# Altium schematic symbol library TRACTIAN-HW-Challenge.SCHLIB: 17 symbols
Pins are listed as number, name and electrical type; pins without a type are passive.

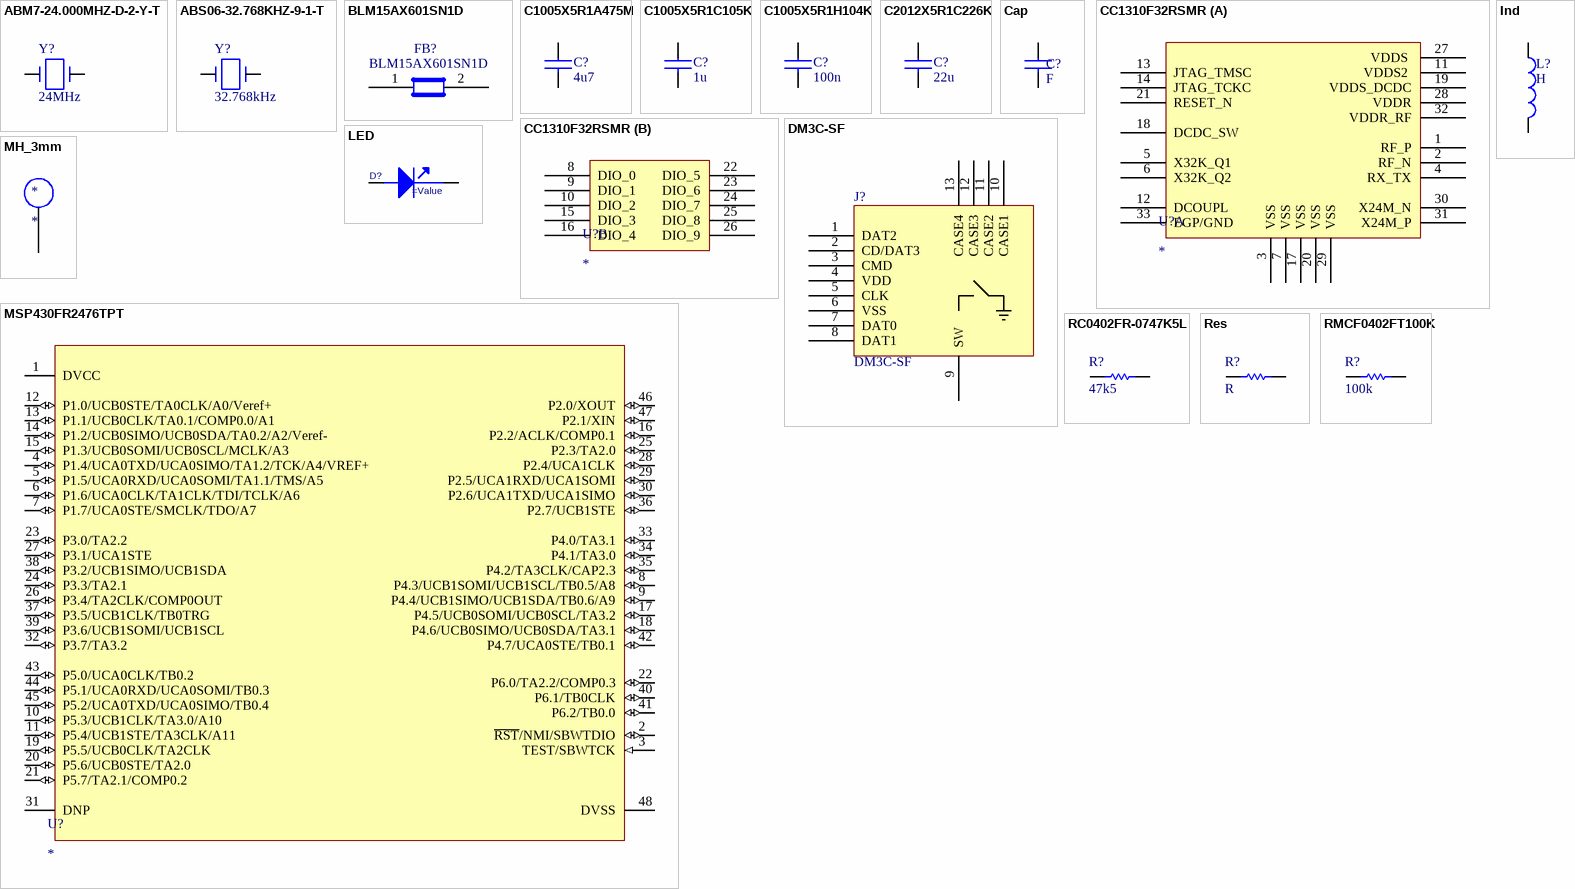
[diagram p0: symbols ABM7-24.000MHZ-D-2-Y-T to RMCF0402FT100K]

## ABM7-24.000MHZ-D-2-Y-T
designator Y?, comment 24MHz
CRYSTAL 24.0000MHZ 18PF SMD; Manufacturer: Abracon Corporation; Manufacturer Part Number: ABM7-24.000MHZ-D-2-Y-T; Frequency Stability: ±30ppm; Frequency Tolerance: ±20ppm; ESR (Equivalent Series Resistance): 50 Ohm; Operating Mode: Fundamental; .Creator: MM; .Checked PCB: RF, used by MM; .Checked SCH: MM, checked by RF; Supplier 1: Digi-Key; RoHS: RoHS Compliant; Category: Crystals and Oscillators; Stock 1: 53059; Pricing 1: 1=1.31, 10=1.138, 50=0.9976, 100=0.7875, 500=0.665 (USD); Type: MHz Crystal; Frequency: 24MHz; Load Capacitance: 18pF; Operating Temperature: -40°C ~ 85°C; Ratings: -; Mounting Type: Surface Mount; Package / Case: 2-SMD; Size / Dimension: 0.236" L x 0.138" W (6.00mm x 3.50mm); Height: 0.055" (1.40mm); Packaging: Cut Tape (CT); ComponentLink1URL: http://www.abracon.com/Resonators/abm7.pdf; ComponentLink1Description: http://www.abracon.com/Resonators/abm7.pdf; Supplier Part Number 1: 535-9845-1-ND
footprint ABM7_v1_1 (Corrected from 2.2 to 2.4 between pads)
pins: 1, 2

## ABS06-32.768KHZ-9-1-T
designator Y?, comment 32.768kHz
CRYSTAL 32.768 KHZ 9.0 PF SMD; Manufacturer: Abracon Corporation; Manufacturer Part Number: ABS06-32.768KHZ-9-1-T; .Checked PCB: used; Frequency Stability: ±10ppm; Load Capacitance: 9pF; Operating Mode: Fundamental; .Checked SCH: used; Category: Crystals and Oscillators; Supplier Part Number: 535-10247-1-ND; Operating Temperature: -40°C ~ 85°C; Package / Case: 2-SMD, No Lead (DFN, LCC); Price 1k [$]: 1.24500; Value: 32.768kHz; Frequency: 32.768kHz; Supplier: Digikey; Supplier 1: Digi-Key; Supplier Part Number 1: 535-10247-1-ND; RoHS: RoHS Compliant; Stock 1: 5693; Pricing 1: 1=2.81, 10=2.438, 50=2.1376, 100=1.6875, 500=1.425 (USD); Type: kHz Crystal (Tuning Fork); Frequency Tolerance: ±10ppm; Mounting Type: Surface Mount; Size / Dimension: 0.079" L x 0.047" W (2.00mm x 1.20mm); Height: 0.024" (0.60mm); Packaging: Cut Tape (CT); ComponentLink1URL: http://www.abracon.com/Resonators/ABS06.pdf; ComponentLink1Description: http://www.abracon.com/Resonators/ABS06.pdf
footprint ABS06
pins: 1, 2

## BLM15AX601SN1D
designator FB?
FERRITE CHIP 600 OHM 0402 420mA; Manufacturer: Murata Electronics North America; .Checked PCB: used; Impedance @ Frequency: 600 Ohm @ 100MHz; DC Resistance (DCR): 340 mOhm Max; Filter Type: Differential Mode - Single; Number of Lines: 1; .Checked SCH: used; Category: Filters; Supplier Part Number: 490-5441-1-ND; Manufacturer Part Number: BLM15AX601SN1D; Package / Case: 0402 (1005 Metric); Price 1k [$]: 0.03280; Value: BLM15AX601SN1D; Current Rating: 420mA; Supplier: Digikey; Supplier 1: Digi-Key; Supplier Part Number 1: 490-5441-1-ND; RoHS: RoHS Compliant; Stock 1: 34008; Pricing 1: 1=0.26, 10=0.197, 50=0.1148, 100=0.0918, 250=0.0656, 500=0.0446, 1000=0.03608, 5000=0.02821 (USD); Mounting Type: Surface Mount; Packaging: Cut Tape (CT); Height (Max): 0.022" (0.55mm); Size / Dimension: 0.039" L x 0.020" W (1.00mm x 0.50mm); ComponentLink1URL: http://search.murata.co.jp/Ceramy/image/img/PDF/ENG/L0110S0100BLM15AX_SN.pdf; ComponentLink1Description: http://search.murata.co.jp/Ceramy/image/img/PDF/ENG/L0110S0100BLM15AX_SN.pdf
footprint C0402
pins: 1, 2

## C1005X5R1A475M
designator C?, comment 4u7
CAP CER 4.7UF 10V 20% X5R 0402; Manufacturer: TDK Corporation; Manufacturer Part Number: C1005X5R1A475M; Capacitance: 4.7µF; .Checked PCB: RF; Supplier 1: Digi-Key; Supplier Part Number 1: 445-8023-1-ND; RoHS: RoHS Compliant; Category: Capacitors; Stock 1: 10140; Pricing 1: 1=0.53, 10=0.415, 100=0.25, 250=0.18752, 500=0.16, 1000=0.125, 5000=0.095 (USD); Voltage - Rated: 10V; Tolerance: ±20%; Temperature Coefficient: X5R; Mounting Type: Surface Mount, MLCC; Operating Temperature: -55°C ~ 85°C; Applications: General Purpose; Ratings: -; Package / Case: 0402 (1005 Metric); Size / Dimension: 0.039" L x 0.020" W (1.00mm x 0.50mm); Height - Seated (Max): -; Thickness (Max): -; Lead Spacing: -; Features: -; Packaging: Cut Tape (CT); Lead Style: -; ComponentLink1URL: http://www.tdk.com/pdf/general_B11.pdf; ComponentLink1Description: http://www.tdk.com/pdf/general_B11.pdf; .Checked SCH: RF
footprint C0402
pins: 1, 2

## C1005X5R1C105K
designator C?, comment 1u
CAP CER 1.0UF 16V X5R 0402; Manufacturer: TDK Corporation; Manufacturer Part Number: C1005X5R1C105K; Capacitance: 1.0µF; Value: 1uF; .Checked PCB: used; Tolerance: ±10%; Category: Capacitors; Operating Temperature: -55°C ~ 85°C; Package / Case: 0402 (1005 Metric); Price 1k [$]: 0.02080; .Checked SCH: used; Voltage - Rated: 16V; Supplier Part Number: 445-4978-1-ND; Supplier: Digikey; Supplier 1: Digi-Key; Supplier Part Number 1: 445-4978-1-ND; RoHS: RoHS Compliant; Stock 1: 341010; Pricing 1: 1=0.24, 10=0.16, 100=0.064, 250=0.046, 500=0.0328, 1000=0.024 (USD); Temperature Coefficient: X5R; Mounting Type: Surface Mount, MLCC; Applications: General Purpose; Ratings: -; Size / Dimension: 0.039" L x 0.020" W (1.00mm x 0.50mm); Height - Seated (Max): -; Thickness (Max): 0.022" (0.55mm); Lead Spacing: -; Features: -; Packaging: Cut Tape (CT); Lead Style: -; ComponentLink1URL: http://www.tdk.co.jp/tefe02/e412_c.pdf; ComponentLink1Description: http://www.tdk.co.jp/tefe02/e412_c.pdf
footprint C0402
pins: 1, 2

## C1005X5R1H104K
designator C?, comment 100n
CAP CER .10UF 50V X5R 10% 0402; Manufacturer: TDK Corporation; Manufacturer Part Number: C1005X5R1H104K; Capacitance: 0.1µF; Value: 100nF; .Checked PCB: used; Category: Capacitors; Supplier Part Number: 445-5942-1-ND; Operating Temperature: -55°C ~ 85°C; Package / Case: 0402 (1005 Metric); Price 1k [$]: 0.02340; .Checked SCH: used; Voltage - Rated: 50V; Supplier: Digikey; Supplier 1: Digi-Key; Supplier Part Number 1: 445-5942-1-ND; RoHS: RoHS Compliant; Stock 1: 106926; Pricing 1: 1=0.27, 10=0.18, 100=0.072, 250=0.05176, 500=0.0369, 1000=0.027 (USD); Tolerance: ±10%; Temperature Coefficient: X5R; Mounting Type: Surface Mount, MLCC; Applications: General Purpose; Ratings: -; Size / Dimension: 0.039" L x 0.020" W (1.00mm x 0.50mm); Height - Seated (Max): -; Thickness (Max): 0.022" (0.55mm); Lead Spacing: -; Features: -; Packaging: Cut Tape (CT); Lead Style: -; ComponentLink1URL: http://www.tdk.co.jp/tefe02/e412_c.pdf; ComponentLink1Description: http://www.tdk.co.jp/tefe02/e412_c.pdf
footprint C0402
pins: 1, 2

## C2012X5R1C226K
designator C?, comment 22u
CAP CER 22UF 16V 10% X5R 0805; Manufacturer: TDK Corporation; Manufacturer Part Number: C2012X5R1C226K; Capacitance: 22µF; .Checked PCB: RF; Supplier 1: Digi-Key; Supplier Part Number 1: 445-6797-1-ND; RoHS: RoHS Compliant; Category: Capacitors; Stock 1: 15408; Pricing 1: 1=0.77, 10=0.737, 100=0.3575, 250=0.297, 500=0.2695, 1000=0.2475 (USD); Voltage - Rated: 16V; Tolerance: ±10%; Temperature Coefficient: X5R; Mounting Type: Surface Mount, MLCC; Operating Temperature: -55°C ~ 85°C; Applications: General Purpose; Ratings: -; Package / Case: 0805 (2012 Metric); Size / Dimension: 0.079" L x 0.049" W (2.00mm x 1.25mm); Height - Seated (Max): -; Thickness (Max): 0.057" (1.45mm); Lead Spacing: -; Features: -; Packaging: Cut Tape (CT); Lead Style: -; ComponentLink1URL: http://www.tdk.com/pdf/general_B11.pdf; ComponentLink1Description: http://www.tdk.com/pdf/general_B11.pdf; .Checked SCH: RF
footprint C0805
pins: 1, 2

## Cap
designator C?, comment F
CAPACITOR; ComponentLink1URL: http://www.vishay.com/doc?34104; ComponentLink1Description: http://www.vishay.com/doc?34104; Value: F
footprint C0402
pins: 1, 2

## CC1310F32RSMR
designator U?
CC1310 SimpleLink™ Ultra-Low-Power Sub-1 GHz Wireless MCU; Manufacturer Name: Texas Instruments; PN: CC1310F32RGZR; Digikey PN: 296-50997-1-ND; Mouser PN: 595-CC1310F32RGZR
footprint VQFN-32 (4x4x1 mm)
part A pins: 1 RF_P, 2 RF_N, 3 VSS, 4 RX_TX, 5 X32K_Q1 , 6 X32K_Q2, 7 VSS, 11 VDDS2 , 12 DCOUPL, 13 JTAG_TMSC, 14 JTAG_TCKC , 17 VSS, 18 DCDC_SW, 19 VDDS_DCDC, 20 VSS, 21 RESET_N , 27 VDDS , 28 VDDR, 29 VSS, 30 X24M_N, 31 X24M_P, 32 VDDR_RF, 33 EGP/GND
part B pins: 8 DIO_0, 9 DIO_1, 10 DIO_2, 15 DIO_3, 16 DIO_4, 22 DIO_5, 23 DIO_6, 24 DIO_7, 25 DIO_8, 26 DIO_9

## DM3C-SF
designator J?
CONN MICRO SD R/A HING TYPE SMD; Manufacturer: Hirose Electric Co Ltd; Card Type: Secure Digital - microSD™; Number of Positions: 10 (8 + 2); Connector Type: Connector and Ejector; Insertion, Removal Method: Hinged Lid; .Creator: MM; Supplier 1: Digi-Key; Manufacturer Part Number: DM3C-SF; RoHS: RoHS Compliant; Category: Connectors, Interconnects; Stock 1: 87; Pricing 1: 1=2.36, 10=1.96, 25=1.8152, 50=1.6368, 100=1.452, 250=1.2738, 500=1.1616 (USD); Packaging: Cut Tape (CT); Ejector Side: -; Mounting Type: Surface Mount, Right Angle; Features: Switch; Height Above Board: 0.072" (1.83mm); Mounting Feature: Normal, Standard - Top; Contact Finish: Gold; Contact Finish Thickness: -; ComponentLink1URL: http://www.hirose.co.jp/cataloge_hp/e60900232.pdf; ComponentLink1Description: http://www.hirose.co.jp/cataloge_hp/e60900232.pdf; Supplier Part Number 1: HR1940CT-ND; .Checked PCB: MM; .Checked SCH: MM
footprint uSD_DM3CS (Creator MM)
footprint USD_DM3CS (Creator MM)
pins: 1 DAT2, 2 CD/DAT3, 3 CMD, 4 VDD, 5 CLK, 6 VSS, 7 DAT0, 8 DAT1, 9 SW, 10 CASE1, 11 CASE2, 12 CASE3, 13 CASE4

## Ind
designator L?, comment H
INDUCTOR; ComponentLink1URL: http://www.vishay.com/doc?34104; ComponentLink1Description: http://www.vishay.com/doc?34104; Value: H
footprint L0402
pins: 1, 2

## LED
designator D?
Generic LED 0603
footprint LED_0603
pins: 1 cathode, 2 ANODE

## MH_3mm
designator *
footprint MH_3mm
pins: 1 MH

## MSP430FR2476TPT
designator U?
MCU 16-BIT ULTRA-LOW-POWER MSP430FR2476TPT LQFP-48; Mouser PN: 595-MSP430FR2476TPT; Digikey PN: 296-MSP430FR2476TPTTR-ND; PN: MSP430FR2476TPT; Manufacturer Name: *
footprint LQFP-48 (LQFP-48 (PT))
pins: 1 DVCC (power) "Supply voltage", 2 ~{RST}/NMI/SBWTDIO (io), 3 TEST/SBWTCK (in), 4 P1.4/UCA0TXD/UCA0SIMO/TA1.2/TCK/A4/VREF+ (io), 5 P1.5/UCA0RXD/UCA0SOMI/TA1.1/TMS/A5 (io), 6 P1.6/UCA0CLK/TA1CLK/TDI/TCLK/A6  (io), 7 P1.7/UCA0STE/SMCLK/TDO/A7 (io), 8 P4.3/UCB1SOMI/UCB1SCL/TB0.5/A8 (io), 9 P4.4/UCB1SIMO/UCB1SDA/TB0.6/A9 (io), 10 P5.3/UCB1CLK/TA3.0/A10 (io), 11 P5.4/UCB1STE/TA3CLK/A11  (io), 12 P1.0/UCB0STE/TA0CLK/A0/Veref+  (io), 13 P1.1/UCB0CLK/TA0.1/COMP0.0/A1 (io), 14 P1.2/UCB0SIMO/UCB0SDA/TA0.2/A2/Veref-  (io), 15 P1.3/UCB0SOMI/UCB0SCL/MCLK/A3  (io), 16 P2.2/ACLK/COMP0.1 (io), 17 P4.5/UCB0SOMI/UCB0SCL/TA3.2 (io), 18 P4.6/UCB0SIMO/UCB0SDA/TA3.1 (io), 19 P5.5/UCB0CLK/TA2CLK  (io), 20 P5.6/UCB0STE/TA2.0 (io), 21 P5.7/TA2.1/COMP0.2 (io), 22 P6.0/TA2.2/COMP0.3 (io), 23 P3.0/TA2.2 (io), 24 P3.3/TA2.1 (io), 25 P2.3/TA2.0 (io), 26 P3.4/TA2CLK/COMP0OUT (io), 27 P3.1/UCA1STE (io), 28 P2.4/UCA1CLK (io), 29 P2.5/UCA1RXD/UCA1SOMI (io), 30 P2.6/UCA1TXD/UCA1SIMO (io), 31 DNP, 32 P3.7/TA3.2 (io), 33 P4.0/TA3.1 (io), 34 P4.1/TA3.0 (io), 35 P4.2/TA3CLK/CAP2.3 (io), 36 P2.7/UCB1STE (io), 37 P3.5/UCB1CLK/TB0TRG (io), 38 P3.2/UCB1SIMO/UCB1SDA (io), 39 P3.6/UCB1SOMI/UCB1SCL (io), 40 P6.1/TB0CLK (io), 41 P6.2/TB0.0 (io), 42 P4.7/UCA0STE/TB0.1 (io), 43 P5.0/UCA0CLK/TB0.2 (io), 44 P5.1/UCA0RXD/UCA0SOMI/TB0.3 (io), 45 P5.2/UCA0TXD/UCA0SIMO/TB0.4  (io), 46 P2.0/XOUT (io), 47 P2.1/XIN (io), 48 DVSS (power) "GND"

## RC0402FR-0747K5L
designator R?, comment 47k5
RES 47.5K OHM 1/16W 1% 0402 SMD; Manufacturer: Yageo; Manufacturer Part Number: RC0402FR-0747K5L; Power (Watts): 0.063W, 1/16W; Temperature Coefficient: ±100ppm/°C; .Checked PCB: RF; Supplier 1: Digi-Key; Supplier Part Number 1: 311-47.5KLRCT-ND; RoHS: RoHS Compliant; Category: Resistors; Stock 1: 59607; Pricing 1: 10=0.014, 100=0.0063, 500=0.00382, 1000=0.0027, 5000=0.00203 (USD); Resistance (Ohms): 47.5K; Composition: Thick Film; Features: -; Tolerance: ±1%; Package / Case: 0402 (1005 Metric); Size / Dimension: 0.039" L x 0.020" W (1.00mm x 0.50mm); Height: 0.016" (0.40mm); Number of Terminations: 2; Packaging: Cut Tape (CT); ComponentLink1URL: http://www.yageo.com/documents/recent/PYu-RC0402_51_RoHS_L_6.pdf; ComponentLink1Description: http://www.yageo.com/documents/recent/PYu-RC0402_51_RoHS_L_6.pdf; .Checked SCH: RF; Assembly: *
footprint R0402
pins: 1, 2

## Res
designator R?, comment R
Generic resistor; Value: R
footprint R0402
pins: 1, 2

## RMCF0402FT100K
designator R?, comment 100k
RES 100K OHM 1/16W 1% 0402 SMD; Manufacturer: Stackpole Electronics Inc; Manufacturer Part Number: RMCF0402FT100K; Power (Watts): 0.063W, 1/16W; .Checked PCB: used; Temperature Coefficient: ±100ppm/°C; Category: Resistors; Supplier Part Number: RMCF0402FT100KCT-ND; Package / Case: 0402 (1005 Metric); Price 1k [$]: 0.00384; Resistance (Ohms): 100K; Tolerance: ±1%; Value: 100k; .Checked SCH: used; Supplier: Digikey; Supplier 1: Digi-Key; Supplier Part Number 1: RMCF0402FT100KCT-ND; RoHS: RoHS Compliant; Stock 1: 95; Pricing 1: 1=0.04, 10=0.025, 50=0.0138, 100=0.0105, 250=0.0078, 500=0.00576, 1000=0.00384 (USD); Composition: Thick Film; Features: -; Size / Dimension: 0.039" L x 0.020" W (1.00mm x 0.50mm); Height: 0.016" (0.40mm); Number of Terminations: 2; Packaging: Cut Tape (CT); ComponentLink1URL: http://www.seielect.com/Catalog/SEI-RMCF.pdf; ComponentLink1Description: http://www.seielect.com/Catalog/SEI-RMCF.pdf
footprint R0402
pins: 1, 2